# Altium footprint library RA-02.PcbLib: 1 footprints
Each footprint in its own frame and in the unit in brackets; x right, y up, seen from the top. Pads: shape width x height; smd on the part's side, far side on the other; paste and mask are expansions set on the pad; w line width, h text height; cw(c..) or ccw(c..) is an arc to the next point about the centre after c.
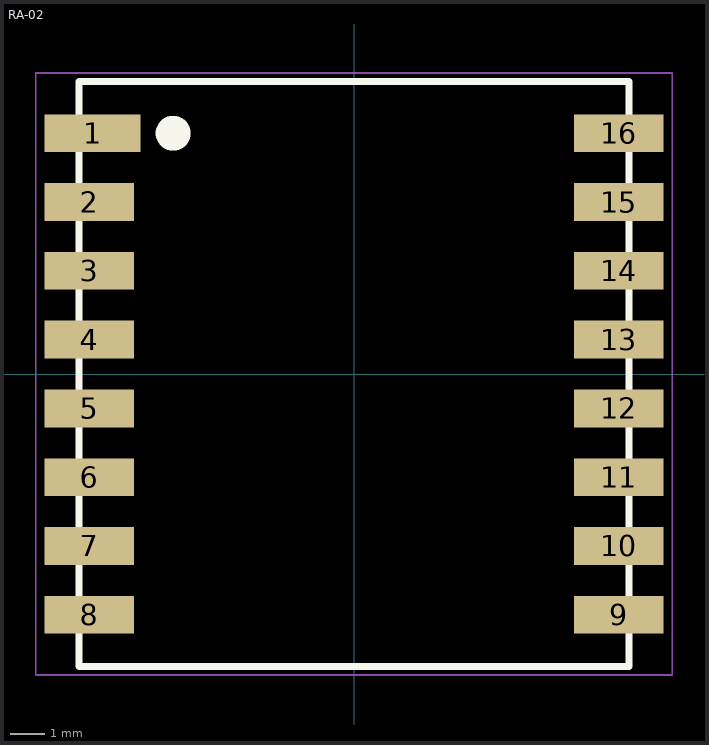
[diagram p0: the footprint, top view; thin cyan lines are the x and y axes]

## RA-02 [mm]
pads (16):
  rect 2.8x1.1 smd: 1(-7.6,7)
  rect 2.6x1.1 smd: 2(-7.7,5) 3(-7.7,3) 4(-7.7,1) 5(-7.7,-1) 6(-7.7,-3) 7(-7.7,-5) 8(-7.7,-7) 9(7.7,-7) 10(7.7,-5) 11(7.7,-3) 12(7.7,-1) 13(7.7,1) 14(7.7,3) 15(7.7,5) 16(7.7,7)
Top Overlay:
  circle w0.813: c-5.258,7 r0.1
  lines w0.2: -8,-8.5 8,-8.5 8,8.5 -8,8.5 -8,-8.5
Courtyard Top:
  lines w0.05: -9.25,-8.75 -9.25,8.75 9.25,8.75 9.25,-8.75 -9.25,-8.75
3D body "step_temp.STEP": height 3.3, standoff 0, extent -8.5,-8.5 8.5,8.5